# EAGLE library part 2N7002DW (library 2N7002DW SOT263)
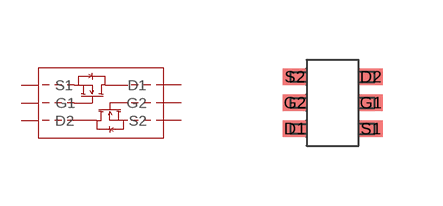
[diagram p0: symbol with the pads of SOT363; footprint SOT363]

Designator prefix -

## 2N7002DW  [SOT363]
D1  D1  pas
D2  D2  pas
G1  G1  in
G2  G2  in
S1  S1  pas
S2  S2  pas

## Footprint SOT363 (pad centres in mm)
smd 0.6 x 0.42: D1 -0.95,-0.65; D2 0.95,0.65; G1 0.95,0; G2 -0.95,0; S1 0.95,-0.65; S2 -0.95,0.65